# Altium integrated library ON Semi MOSFETs.IntLib: 1097 symbols (part 17 of 26)
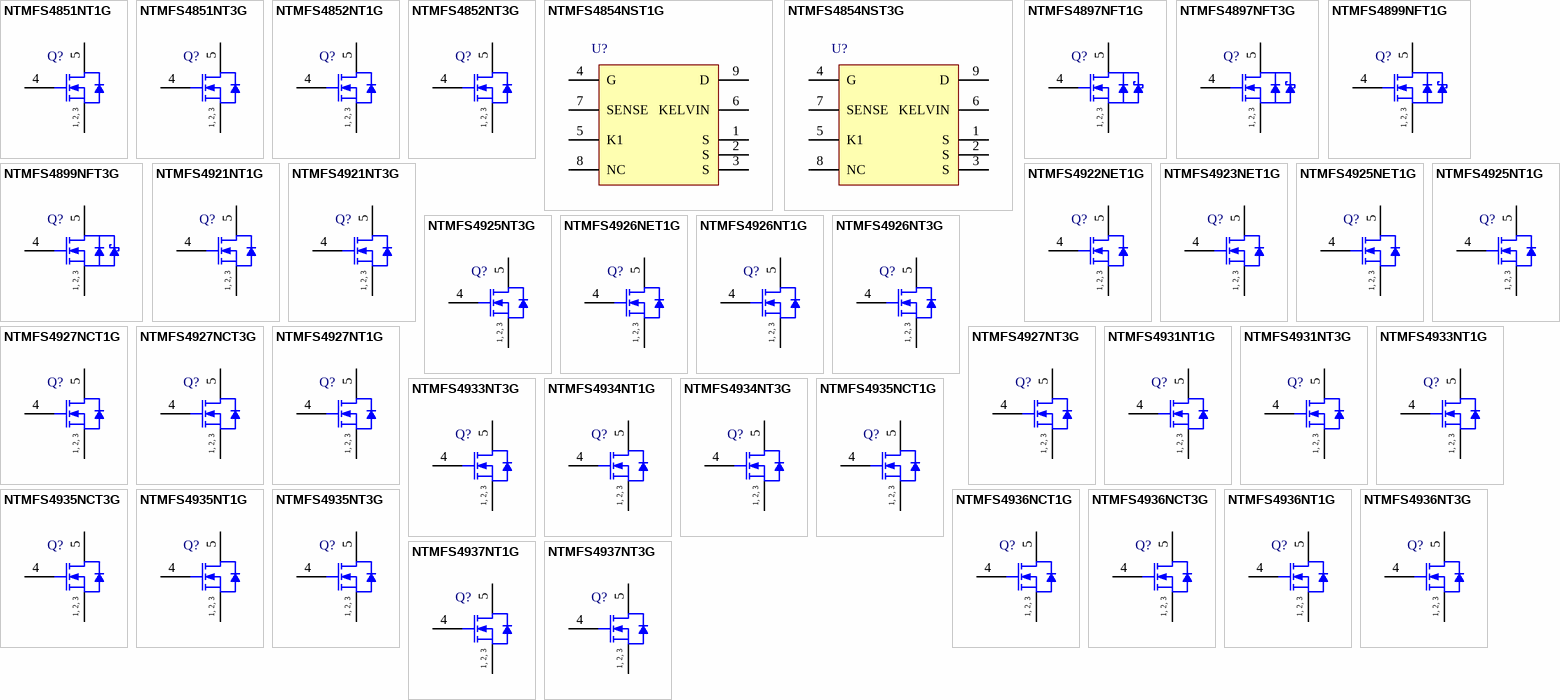
[diagram p47: symbols NTMFS4851NT1G to NTMFS4937NT3G]

## NTMFS4854NST3G
designator U?
SENSEFET(R) Power MOSFET, 25 V, 149 A, Single N-Channel, 8-Pin DFN, Pb-Free, Tape and Reel; Manufacturer: On Semiconductor; PartNumber: NTMFS4854NST3G; Channel Polarity: N Channel; Ciss Typ (pF): 4830; Coss Typ (pF): 1130; Crss Typ (pF): 550; Qrr Typ (nC): 33; V(BR)DSS Min (V): 25; VGS Max (V): 16; VGS(th) Max (V): 2.5; DatasheetVersion: Rev. 1; PackageVersion: Rev. C, 04/2012; PackageReference: DFN-8-506BQ; PackageDescription: 8-Pin Small Outline No-Lead, Body 5.8 x 4.8 mm, Pitch 1.27 mm; Configuration: Single; Package Type: SO-8FL / DFN-8; Packing: Tape and Reel; RoHS: Pb-Free; Mounting Technology: Surface Mount; ComponentLink1Description: Manufacturer URL; ComponentLink1URL: http://www.onsemi.com/; ComponentLink2Description: Datasheet; ComponentLink2URL: http://www.onsemi.com/pub_link/Collateral/NTMFS4854NS-D.PDF; ComponentLink3Description: Package Specification; ComponentLink3URL: http://www.onsemi.com/pub_link/Collateral/506BQ.PDF
footprint ONSC-DFN-8-506BQ_V (SON, 8-Leads, Body 6.15x5.15mm, Pitch 1.27mm, Thermal Pad 4.56x3.7mm)
pins: 1 S, 2 S, 3 S, 4 G, 5 K1, 6 KELVIN, 7 SENSE, 8 NC, 9 D

## NTMFS4897NFT1G
designator Q?
Power MOSFET, 30 V, 171 A, Single N-Channel, 5-Pin DFN, Pb-Free, Tape and Reel; Manufacturer: On Semiconductor; PartNumber: NTMFS4897NFT1G; Channel Polarity: N Channel; Ciss Typ (pF): 5660; Configuration: with Schottky Diode; Coss Typ (pF): 1150; Crss Typ (pF): 495; ID Max (A): 171; Qrr Typ (nC): 34; V(BR)DSS Min (V): 30; VGS Max (V): 20; VGS(th) Max (V): 2.5; DatasheetVersion: Rev. 2; PackageVersion: Rev. H, 03/2013; PackageReference: DFN-5-488AA; PackageDescription: 5-Pin Small Outline No-Lead, Body 4.9 x 5.9 mm, Pitch 1.27 mm; Package Type: SO-8FL / DFN-5; Packing: Tape and Reel; RoHS: Pb-Free; Mounting Technology: Surface Mount; Code_JEDEC: MO-240A; ComponentLink1Description: Manufacturer URL; ComponentLink1URL: http://www.onsemi.com/; ComponentLink2Description: Datasheet; ComponentLink2URL: http://www.onsemi.com/pub_link/Collateral/NTMFS4897NF-D.PDF; ComponentLink3Description: Package Specification; ComponentLink3URL: http://www.onsemi.com/pub_link/Collateral/488AA.PDF
footprint ONSC-DFN-5-488AA_V (DFN, 5-Leads, Body 5.9x4.9mm, Pitch 1.27mm)
pins: 1 S, 2 S, 3 S, 4 G, 5 D
text: 1, 2, 3

## NTMFS4897NFT3G
designator Q?
Power MOSFET, 30 V, 171 A, Single N-Channel, 5-Pin DFN, Pb-Free, Tape and Reel; Manufacturer: On Semiconductor; PartNumber: NTMFS4897NFT3G; Channel Polarity: N Channel; Ciss Typ (pF): 5660; Configuration: with Schottky Diode; Coss Typ (pF): 1150; Crss Typ (pF): 495; ID Max (A): 171; Qrr Typ (nC): 34; V(BR)DSS Min (V): 30; VGS Max (V): 20; VGS(th) Max (V): 2.5; DatasheetVersion: Rev. 2; PackageVersion: Rev. H, 03/2013; PackageReference: DFN-5-488AA; PackageDescription: 5-Pin Small Outline No-Lead, Body 4.9 x 5.9 mm, Pitch 1.27 mm; Package Type: SO-8FL / DFN-5; Packing: Tape and Reel; RoHS: Pb-Free; Mounting Technology: Surface Mount; Code_JEDEC: MO-240A; ComponentLink1Description: Manufacturer URL; ComponentLink1URL: http://www.onsemi.com/; ComponentLink2Description: Datasheet; ComponentLink2URL: http://www.onsemi.com/pub_link/Collateral/NTMFS4897NF-D.PDF; ComponentLink3Description: Package Specification; ComponentLink3URL: http://www.onsemi.com/pub_link/Collateral/488AA.PDF
footprint ONSC-DFN-5-488AA_V (DFN, 5-Leads, Body 5.9x4.9mm, Pitch 1.27mm)
pins: 1 S, 2 S, 3 S, 4 G, 5 D
text: 1, 2, 3

## NTMFS4899NFT1G
designator Q?
Power MOSFET, 30 V, 75 A, Single N-Channel, 5-Pin DFN, Pb-Free, Tape and Reel; Manufacturer: On Semiconductor; PartNumber: NTMFS4899NFT1G; Channel Polarity: N Channel; Ciss Typ (pF): 1600; Configuration: with Schottky Diode; Coss Typ (pF): 360; Crss Typ (pF): 165; ID Max (A): 75; Qrr Typ (nC): 5.7; V(BR)DSS Min (V): 30; VGS Max (V): 20; VGS(th) Max (V): 2.5; DatasheetVersion: Rev. 3; PackageVersion: Rev. H, 03/2013; PackageReference: DFN-5-488AA; PackageDescription: 5-Pin Small Outline No-Lead, Body 4.9 x 5.9 mm, Pitch 1.27 mm; Package Type: SO-8FL / DFN-5; Packing: Tape and Reel; RoHS: Pb-Free; Mounting Technology: Surface Mount; Code_JEDEC: MO-240A; ComponentLink1Description: Manufacturer URL; ComponentLink1URL: http://www.onsemi.com/; ComponentLink2Description: Datasheet; ComponentLink2URL: http://www.onsemi.com/pub_link/Collateral/NTMFS4899NF-D.PDF; ComponentLink3Description: Package Specification; ComponentLink3URL: http://www.onsemi.com/pub_link/Collateral/488AA.PDF
footprint ONSC-DFN-5-488AA_V (DFN, 5-Leads, Body 5.9x4.9mm, Pitch 1.27mm)
pins: 1 S, 2 S, 3 S, 4 G, 5 D
text: 1, 2, 3

## NTMFS4899NFT3G
designator Q?
Power MOSFET, 30 V, 75 A, Single N-Channel, 5-Pin DFN, Pb-Free, Tape and Reel; Manufacturer: On Semiconductor; PartNumber: NTMFS4899NFT3G; Channel Polarity: N Channel; Ciss Typ (pF): 1600; Configuration: with Schottky Diode; Coss Typ (pF): 360; Crss Typ (pF): 165; ID Max (A): 75; Qrr Typ (nC): 5.7; V(BR)DSS Min (V): 30; VGS Max (V): 20; VGS(th) Max (V): 2.5; DatasheetVersion: Rev. 3; PackageVersion: Rev. H, 03/2013; PackageReference: DFN-5-488AA; PackageDescription: 5-Pin Small Outline No-Lead, Body 4.9 x 5.9 mm, Pitch 1.27 mm; Package Type: SO-8FL / DFN-5; Packing: Tape and Reel; RoHS: Pb-Free; Mounting Technology: Surface Mount; Code_JEDEC: MO-240A; ComponentLink1Description: Manufacturer URL; ComponentLink1URL: http://www.onsemi.com/; ComponentLink2Description: Datasheet; ComponentLink2URL: http://www.onsemi.com/pub_link/Collateral/NTMFS4899NF-D.PDF; ComponentLink3Description: Package Specification; ComponentLink3URL: http://www.onsemi.com/pub_link/Collateral/488AA.PDF
footprint ONSC-DFN-5-488AA_V (DFN, 5-Leads, Body 5.9x4.9mm, Pitch 1.27mm)
pins: 1 S, 2 S, 3 S, 4 G, 5 D
text: 1, 2, 3

## NTMFS4921NT1G
designator Q?
Power MOSFET, 30 V, 58.5 A, Single N-Channel, 5-Pin DFN, Pb-Free, Tape and Reel; Manufacturer: On Semiconductor; PartNumber: NTMFS4921NT1G; Channel Polarity: N Channel; Ciss Typ (pF): 1400; Coss Typ (pF): 282; Crss Typ (pF): 136; ID Max (A): 58.5; Qrr Typ (nC): 2; V(BR)DSS Min (V): 30; VGS Max (V): 20; VGS(th) Max (V): 2.5; DatasheetVersion: Rev. 4; PackageVersion: Rev. H, 03/2013; PackageReference: DFN-5-488AA; PackageDescription: 5-Pin Small Outline No-Lead, Body 4.9 x 5.9 mm, Pitch 1.27 mm; Configuration: Single; Package Type: SO-8FL / DFN-5; Packing: Tape and Reel; RoHS: Pb-Free; Mounting Technology: Surface Mount; Code_JEDEC: MO-240A; ComponentLink1Description: Manufacturer URL; ComponentLink1URL: http://www.onsemi.com/; ComponentLink2Description: Datasheet; ComponentLink2URL: http://www.onsemi.com/pub_link/Collateral/NTMFS4921N.PDF; ComponentLink3Description: Package Specification; ComponentLink3URL: http://www.onsemi.com/pub_link/Collateral/488AA.PDF
footprint ONSC-DFN-5-488AA_V (DFN, 5-Leads, Body 5.9x4.9mm, Pitch 1.27mm)
pins: 1 S, 2 S, 3 S, 4 G, 5 D
text: 1, 2, 3

## NTMFS4921NT3G
designator Q?
Power MOSFET, 30 V, 58.5 A, Single N-Channel, 5-Pin DFN, Pb-Free, Tape and Reel; Manufacturer: On Semiconductor; PartNumber: NTMFS4921NT3G; Channel Polarity: N Channel; Ciss Typ (pF): 1400; Coss Typ (pF): 282; Crss Typ (pF): 136; ID Max (A): 58.5; Qrr Typ (nC): 2; V(BR)DSS Min (V): 30; VGS Max (V): 20; VGS(th) Max (V): 2.5; DatasheetVersion: Rev. 4; PackageVersion: Rev. H, 03/2013; PackageReference: DFN-5-488AA; PackageDescription: 5-Pin Small Outline No-Lead, Body 4.9 x 5.9 mm, Pitch 1.27 mm; Configuration: Single; Package Type: SO-8FL / DFN-5; Packing: Tape and Reel; RoHS: Pb-Free; Mounting Technology: Surface Mount; Code_JEDEC: MO-240A; ComponentLink1Description: Manufacturer URL; ComponentLink1URL: http://www.onsemi.com/; ComponentLink2Description: Datasheet; ComponentLink2URL: http://www.onsemi.com/pub_link/Collateral/NTMFS4921N.PDF; ComponentLink3Description: Package Specification; ComponentLink3URL: http://www.onsemi.com/pub_link/Collateral/488AA.PDF
footprint ONSC-DFN-5-488AA_V (DFN, 5-Leads, Body 5.9x4.9mm, Pitch 1.27mm)
pins: 1 S, 2 S, 3 S, 4 G, 5 D
text: 1, 2, 3

## NTMFS4922NET1G
designator Q?
Power MOSFET, 30 V, 147 A, Single N-Channel, 5-Pin DFN, Pb-Free, Tape and Reel; Manufacturer: On Semiconductor; PartNumber: NTMFS4922NET1G; Channel Polarity: N Channel; Ciss Typ (pF): 5505; Coss Typ (pF): 2355; Crss Typ (pF): 90; ID Max (A): 147; Qrr Typ (nC): 70; V(BR)DSS Min (V): 30; VGS Max (V): 20; VGS(th) Max (V): 2; DatasheetVersion: Rev. 1; PackageVersion: Rev. H, 03/2013; PackageReference: DFN-5-488AA; PackageDescription: 5-Pin Small Outline No-Lead, Body 4.9 x 5.9 mm, Pitch 1.27 mm; Configuration: Single; Package Type: SO-8FL / DFN-5; Packing: Tape and Reel; RoHS: Pb-Free; Mounting Technology: Surface Mount; Code_JEDEC: MO-240A; ComponentLink1Description: Manufacturer URL; ComponentLink1URL: http://www.onsemi.com/; ComponentLink2Description: Datasheet; ComponentLink2URL: http://www.onsemi.com/pub_link/Collateral/NTMFS4922NE-D.PDF; ComponentLink3Description: Package Specification; ComponentLink3URL: http://www.onsemi.com/pub_link/Collateral/488AA.PDF
footprint ONSC-DFN-5-488AA_V (DFN, 5-Leads, Body 5.9x4.9mm, Pitch 1.27mm)
pins: 1 S, 2 S, 3 S, 4 G, 5 D
text: 1, 2, 3

## NTMFS4923NET1G
designator Q?
Power MOSFET, 30 V, 91 A, Single N-Channel, 5-Pin DFN, Pb-Free, Tape and Reel; Manufacturer: On Semiconductor; PartNumber: NTMFS4923NET1G; Channel Polarity: N Channel; Ciss Typ (pF): 3579; Coss Typ (pF): 1264; Crss Typ (pF): 39; Qrr Typ (nC): 45; V(BR)DSS Min (V): 30; VGS Max (V): 20; VGS(th) Max (V): 2; DatasheetVersion: Rev. 1; PackageVersion: Rev. H, 03/2013; PackageReference: DFN-5-488AA; PackageDescription: 5-Pin Small Outline No-Lead, Body 4.9 x 5.9 mm, Pitch 1.27 mm; Configuration: Single; Package Type: SO-8FL / DFN-5; Packing: Tape and Reel; RoHS: Pb-Free; Mounting Technology: Surface Mount; Code_JEDEC: MO-240A; ComponentLink1Description: Manufacturer URL; ComponentLink1URL: http://www.onsemi.com/; ComponentLink2Description: Datasheet; ComponentLink2URL: http://www.onsemi.com/pub_link/Collateral/NTMFS4923NE-D.PDF; ComponentLink3Description: Package Specification; ComponentLink3URL: http://www.onsemi.com/pub_link/Collateral/488AA.PDF
footprint ONSC-DFN-5-488AA_V (DFN, 5-Leads, Body 5.9x4.9mm, Pitch 1.27mm)
pins: 1 S, 2 S, 3 S, 4 G, 5 D
text: 1, 2, 3

## NTMFS4925NET1G
designator Q?
Power MOSFET, 30 V, 48 A, Single N-Channel, 5-Pin DFN, Pb-Free, Tape and Reel; Manufacturer: On Semiconductor; PartNumber: NTMFS4925NET1G; Channel Polarity: N Channel; Ciss Typ (pF): 1264; Coss Typ (pF): 483; Crss Typ (pF): 143; ID Max (A): 48; Qrr Typ (nC): 13.6; V(BR)DSS Min (V): 30; VGS Max (V): 20; VGS(th) Max (V): 2.2; DatasheetVersion: Rev. 0; PackageVersion: Rev. H, 03/2013; PackageReference: DFN-5-488AA; PackageDescription: 5-Pin Small Outline No-Lead, Body 4.9 x 5.9 mm, Pitch 1.27 mm; Configuration: Single; Package Type: SO-8FL / DFN-5; Packing: Tape and Reel; RoHS: Pb-Free; Mounting Technology: Surface Mount; Code_JEDEC: MO-240A; ComponentLink1Description: Manufacturer URL; ComponentLink1URL: http://www.onsemi.com/; ComponentLink2Description: Datasheet; ComponentLink2URL: http://www.onsemi.com/pub_link/Collateral/NTMFS4925-D.PDF; ComponentLink3Description: Package Specification; ComponentLink3URL: http://www.onsemi.com/pub_link/Collateral/488AA.PDF
footprint ONSC-DFN-5-488AA_V (DFN, 5-Leads, Body 5.9x4.9mm, Pitch 1.27mm)
pins: 1 S, 2 S, 3 S, 4 G, 5 D
text: 1, 2, 3

## NTMFS4925NT1G
designator Q?
Power MOSFET, 30 V, 48 A, Single N-Channel, 5-Pin DFN, Pb-Free, Tape and Reel; Manufacturer: On Semiconductor; PartNumber: NTMFS4925NT1G; Channel Polarity: N Channel; Ciss Typ (pF): 1264; Coss Typ (pF): 483; Crss Typ (pF): 143; ID Max (A): 48; Qrr Typ (nC): 13.6; V(BR)DSS Min (V): 30; VGS Max (V): 20; VGS(th) Max (V): 2.2; DatasheetVersion: Rev. 6; PackageVersion: Rev. H, 03/2013; PackageReference: DFN-5-488AA; PackageDescription: 5-Pin Small Outline No-Lead, Body 4.9 x 5.9 mm, Pitch 1.27 mm; Configuration: Single; Package Type: SO-8FL / DFN-5; Packing: Tape and Reel; RoHS: Pb-Free; Mounting Technology: Surface Mount; Code_JEDEC: MO-240A; ComponentLink1Description: Manufacturer URL; ComponentLink1URL: http://www.onsemi.com/; ComponentLink2Description: Datasheet; ComponentLink2URL: http://www.onsemi.com/pub_link/Collateral/NTMFS4925N-D.PDF; ComponentLink3Description: Package Specification; ComponentLink3URL: http://www.onsemi.com/pub_link/Collateral/488AA.PDF
footprint ONSC-DFN-5-488AA_V (DFN, 5-Leads, Body 5.9x4.9mm, Pitch 1.27mm)
pins: 1 S, 2 S, 3 S, 4 G, 5 D
text: 1, 2, 3

## NTMFS4925NT3G
designator Q?
Power MOSFET, 30 V, 48 A, Single N-Channel, 5-Pin DFN, Pb-Free, Tape and Reel; Manufacturer: On Semiconductor; PartNumber: NTMFS4925NT3G; Channel Polarity: N Channel; Ciss Typ (pF): 1264; Coss Typ (pF): 483; Crss Typ (pF): 143; ID Max (A): 48; Qrr Typ (nC): 13.6; V(BR)DSS Min (V): 30; VGS Max (V): 20; VGS(th) Max (V): 2.2; DatasheetVersion: Rev. 6; PackageVersion: Rev. H, 03/2013; PackageReference: DFN-5-488AA; PackageDescription: 5-Pin Small Outline No-Lead, Body 4.9 x 5.9 mm, Pitch 1.27 mm; Configuration: Single; Package Type: SO-8FL / DFN-5; Packing: Tape and Reel; RoHS: Pb-Free; Mounting Technology: Surface Mount; Code_JEDEC: MO-240A; ComponentLink1Description: Manufacturer URL; ComponentLink1URL: http://www.onsemi.com/; ComponentLink2Description: Datasheet; ComponentLink2URL: http://www.onsemi.com/pub_link/Collateral/NTMFS4925N-D.PDF; ComponentLink3Description: Package Specification; ComponentLink3URL: http://www.onsemi.com/pub_link/Collateral/488AA.PDF
footprint ONSC-DFN-5-488AA_V (DFN, 5-Leads, Body 5.9x4.9mm, Pitch 1.27mm)
pins: 1 S, 2 S, 3 S, 4 G, 5 D
text: 1, 2, 3

## NTMFS4926NET1G
designator Q?
Power MOSFET, 30 V, 44 A, Single N-Channel, 5-Pin DFN, Pb-Free, Tape and Reel; Manufacturer: On Semiconductor; PartNumber: NTMFS4926NET1G; Channel Polarity: N Channel; Ciss Typ (pF): 1004; Coss Typ (pF): 390; Crss Typ (pF): 119; ID Max (A): 44; Qrr Typ (nC): 8; V(BR)DSS Min (V): 30; VGS Max (V): 20; VGS(th) Max (V): 2.2; DatasheetVersion: Rev. 1; PackageVersion: Rev. H, 03/2013; PackageReference: DFN-5-488AA; PackageDescription: 5-Pin Small Outline No-Lead, Body 4.9 x 5.9 mm, Pitch 1.27 mm; Configuration: Single; Package Type: SO-8FL / DFN-5; Packing: Tape and Reel; RoHS: Pb-Free; Mounting Technology: Surface Mount; Code_JEDEC: MO-240A; ComponentLink1Description: Manufacturer URL; ComponentLink1URL: http://www.onsemi.com/; ComponentLink2Description: Datasheet; ComponentLink2URL: http://www.onsemi.com/pub_link/Collateral/NTMFS4926NE-D.PDF; ComponentLink3Description: Package Specification; ComponentLink3URL: http://www.onsemi.com/pub_link/Collateral/488AA.PDF
footprint ONSC-DFN-5-488AA_V (DFN, 5-Leads, Body 5.9x4.9mm, Pitch 1.27mm)
pins: 1 S, 2 S, 3 S, 4 G, 5 D
text: 1, 2, 3

## NTMFS4926NT1G
designator Q?
Power MOSFET, 30 V, 44 A, Single N-Channel, 5-Pin DFN, Pb-Free, Tape and Reel; Manufacturer: On Semiconductor; PartNumber: NTMFS4926NT1G; Channel Polarity: N Channel; Ciss Typ (pF): 1004; Coss Typ (pF): 390; Crss Typ (pF): 119; ID Max (A): 44; Qrr Typ (nC): 8; V(BR)DSS Min (V): 30; VGS Max (V): 20; VGS(th) Max (V): 2.2; DatasheetVersion: Rev. 5; PackageVersion: Rev. H, 03/2013; PackageReference: DFN-5-488AA; PackageDescription: 5-Pin Small Outline No-Lead, Body 4.9 x 5.9 mm, Pitch 1.27 mm; Configuration: Single; Package Type: SO-8FL / DFN-5; Packing: Tape and Reel; RoHS: Pb-Free; Mounting Technology: Surface Mount; Code_JEDEC: MO-240A; ComponentLink1Description: Manufacturer URL; ComponentLink1URL: http://www.onsemi.com/; ComponentLink2Description: Datasheet; ComponentLink2URL: http://www.onsemi.com/pub_link/Collateral/NTMFS4926N-D.PDF; ComponentLink3Description: Package Specification; ComponentLink3URL: http://www.onsemi.com/pub_link/Collateral/488AA.PDF
footprint ONSC-DFN-5-488AA_V (DFN, 5-Leads, Body 5.9x4.9mm, Pitch 1.27mm)
pins: 1 S, 2 S, 3 S, 4 G, 5 D
text: 1, 2, 3

## NTMFS4926NT3G
designator Q?
Power MOSFET, 30 V, 44 A, Single N-Channel, 5-Pin DFN, Pb-Free, Tape and Reel; Manufacturer: On Semiconductor; PartNumber: NTMFS4926NT3G; Channel Polarity: N Channel; Ciss Typ (pF): 1004; Coss Typ (pF): 390; Crss Typ (pF): 119; ID Max (A): 44; Qrr Typ (nC): 8; V(BR)DSS Min (V): 30; VGS Max (V): 20; VGS(th) Max (V): 2.2; DatasheetVersion: Rev. 5; PackageVersion: Rev. H, 03/2013; PackageReference: DFN-5-488AA; PackageDescription: 5-Pin Small Outline No-Lead, Body 4.9 x 5.9 mm, Pitch 1.27 mm; Configuration: Single; Package Type: SO-8FL / DFN-5; Packing: Tape and Reel; RoHS: Pb-Free; Mounting Technology: Surface Mount; Code_JEDEC: MO-240A; ComponentLink1Description: Manufacturer URL; ComponentLink1URL: http://www.onsemi.com/; ComponentLink2Description: Datasheet; ComponentLink2URL: http://www.onsemi.com/pub_link/Collateral/NTMFS4926N-D.PDF; ComponentLink3Description: Package Specification; ComponentLink3URL: http://www.onsemi.com/pub_link/Collateral/488AA.PDF
footprint ONSC-DFN-5-488AA_V (DFN, 5-Leads, Body 5.9x4.9mm, Pitch 1.27mm)
pins: 1 S, 2 S, 3 S, 4 G, 5 D
text: 1, 2, 3

## NTMFS4927NCT1G
designator Q?
Power MOSFET, 30 V, 38 A, Single N-Channel, 5-Pin DFN, Pb-Free, Tape and Reel; Manufacturer: On Semiconductor; PartNumber: NTMFS4927NCT1G; Channel Polarity: N Channel; Ciss Typ (pF): 913; Coss Typ (pF): 366; Crss Typ (pF): 108; ID Max (A): 38; Qrr Typ (nC): 8.4; V(BR)DSS Min (V): 30; VGS Max (V): 20; VGS(th) Max (V): 2.2; DatasheetVersion: Rev. 8; PackageVersion: Rev. H, 03/2013; PackageReference: DFN-5-488AA; PackageDescription: 5-Pin Small Outline No-Lead, Body 4.9 x 5.9 mm, Pitch 1.27 mm; Configuration: Single; Package Type: SO-8FL / DFN-5; Packing: Tape and Reel; RoHS: Pb-Free; Mounting Technology: Surface Mount; Code_JEDEC: MO-240A; ComponentLink1Description: Manufacturer URL; ComponentLink1URL: http://www.onsemi.com/; ComponentLink2Description: Datasheet; ComponentLink2URL: http://www.onsemi.com/pub_link/Collateral/NTMFS4927N-D.PDF; ComponentLink3Description: Package Specification; ComponentLink3URL: http://www.onsemi.com/pub_link/Collateral/488AA.PDF
footprint ONSC-DFN-5-488AA_V (DFN, 5-Leads, Body 5.9x4.9mm, Pitch 1.27mm)
pins: 1 S, 2 S, 3 S, 4 G, 5 D
text: 1, 2, 3

## NTMFS4927NCT3G
designator Q?
Power MOSFET, 30 V, 38 A, Single N-Channel, 5-Pin DFN, Pb-Free, Tape and Reel; Manufacturer: On Semiconductor; PartNumber: NTMFS4927NCT3G; Channel Polarity: N Channel; Ciss Typ (pF): 913; Coss Typ (pF): 366; Crss Typ (pF): 108; ID Max (A): 38; Qrr Typ (nC): 8.4; V(BR)DSS Min (V): 30; VGS Max (V): 20; VGS(th) Max (V): 2.2; DatasheetVersion: Rev. 8; PackageVersion: Rev. H, 03/2013; PackageReference: DFN-5-488AA; PackageDescription: 5-Pin Small Outline No-Lead, Body 4.9 x 5.9 mm, Pitch 1.27 mm; Configuration: Single; Package Type: SO-8FL / DFN-5; Packing: Tape and Reel; RoHS: Pb-Free; Mounting Technology: Surface Mount; Code_JEDEC: MO-240A; ComponentLink1Description: Manufacturer URL; ComponentLink1URL: http://www.onsemi.com/; ComponentLink2Description: Datasheet; ComponentLink2URL: http://www.onsemi.com/pub_link/Collateral/NTMFS4927N-D.PDF; ComponentLink3Description: Package Specification; ComponentLink3URL: http://www.onsemi.com/pub_link/Collateral/488AA.PDF
footprint ONSC-DFN-5-488AA_V (DFN, 5-Leads, Body 5.9x4.9mm, Pitch 1.27mm)
pins: 1 S, 2 S, 3 S, 4 G, 5 D
text: 1, 2, 3

## NTMFS4927NT1G
designator Q?
Power MOSFET, 30 V, 38 A, Single N-Channel, 5-Pin DFN, Pb-Free, Tape and Reel; Manufacturer: On Semiconductor; PartNumber: NTMFS4927NT1G; Channel Polarity: N Channel; Ciss Typ (pF): 913; Coss Typ (pF): 366; Crss Typ (pF): 108; ID Max (A): 38; Qrr Typ (nC): 8.4; V(BR)DSS Min (V): 30; VGS Max (V): 20; VGS(th) Max (V): 2.2; DatasheetVersion: Rev. 8; PackageVersion: Rev. H, 03/2013; PackageReference: DFN-5-488AA; PackageDescription: 5-Pin Small Outline No-Lead, Body 4.9 x 5.9 mm, Pitch 1.27 mm; Configuration: Single; Package Type: SO-8FL / DFN-5; Packing: Tape and Reel; RoHS: Pb-Free; Mounting Technology: Surface Mount; Code_JEDEC: MO-240A; ComponentLink1Description: Manufacturer URL; ComponentLink1URL: http://www.onsemi.com/; ComponentLink2Description: Datasheet; ComponentLink2URL: http://www.onsemi.com/pub_link/Collateral/NTMFS4927N-D.PDF; ComponentLink3Description: Package Specification; ComponentLink3URL: http://www.onsemi.com/pub_link/Collateral/488AA.PDF
footprint ONSC-DFN-5-488AA_V (DFN, 5-Leads, Body 5.9x4.9mm, Pitch 1.27mm)
pins: 1 S, 2 S, 3 S, 4 G, 5 D
text: 1, 2, 3

## NTMFS4927NT3G
designator Q?
Power MOSFET, 30 V, 38 A, Single N-Channel, 5-Pin DFN, Pb-Free, Tape and Reel; Manufacturer: On Semiconductor; PartNumber: NTMFS4927NT3G; Channel Polarity: N Channel; Ciss Typ (pF): 913; Coss Typ (pF): 366; Crss Typ (pF): 108; ID Max (A): 38; Qrr Typ (nC): 8.4; V(BR)DSS Min (V): 30; VGS Max (V): 20; VGS(th) Max (V): 2.2; DatasheetVersion: Rev. 8; PackageVersion: Rev. H, 03/2013; PackageReference: DFN-5-488AA; PackageDescription: 5-Pin Small Outline No-Lead, Body 4.9 x 5.9 mm, Pitch 1.27 mm; Configuration: Single; Package Type: SO-8FL / DFN-5; Packing: Tape and Reel; RoHS: Pb-Free; Mounting Technology: Surface Mount; Code_JEDEC: MO-240A; ComponentLink1Description: Manufacturer URL; ComponentLink1URL: http://www.onsemi.com/; ComponentLink2Description: Datasheet; ComponentLink2URL: http://www.onsemi.com/pub_link/Collateral/NTMFS4927N-D.PDF; ComponentLink3Description: Package Specification; ComponentLink3URL: http://www.onsemi.com/pub_link/Collateral/488AA.PDF
footprint ONSC-DFN-5-488AA_V (DFN, 5-Leads, Body 5.9x4.9mm, Pitch 1.27mm)
pins: 1 S, 2 S, 3 S, 4 G, 5 D
text: 1, 2, 3

## NTMFS4931NT1G
designator Q?
Power MOSFET, 30 V, 246 A, Single N-Channel, 5-Pin DFN, Pb-Free, Tape and Reel; Manufacturer: On Semiconductor; PartNumber: NTMFS4931NT1G; Channel Polarity: N Channel; Ciss Typ (pF): 9821; Coss Typ (pF): 2720; Crss Typ (pF): 234; ID Max (A): 246; Qrr Typ (nC): 100; V(BR)DSS Min (V): 30; VGS Max (V): 20; VGS(th) Max (V): 2.2; DatasheetVersion: Rev. 0; PackageVersion: Rev. H, 03/2013; PackageReference: DFN-5-488AA; PackageDescription: 5-Pin Small Outline No-Lead, Body 4.9 x 5.9 mm, Pitch 1.27 mm; Configuration: Single; Package Type: SO-8FL / DFN-5; Packing: Tape and Reel; RoHS: Pb-Free; Mounting Technology: Surface Mount; Code_JEDEC: MO-240A; ComponentLink1Description: Manufacturer URL; ComponentLink1URL: http://www.onsemi.com/; ComponentLink2Description: Datasheet; ComponentLink2URL: http://www.onsemi.com/pub_link/Collateral/NTMFS4931N-D.PDF; ComponentLink3Description: Package Specification; ComponentLink3URL: http://www.onsemi.com/pub_link/Collateral/488AA.PDF
footprint ONSC-DFN-5-488AA_V (DFN, 5-Leads, Body 5.9x4.9mm, Pitch 1.27mm)
pins: 1 S, 2 S, 3 S, 4 G, 5 D
text: 1, 2, 3

## NTMFS4931NT3G
designator Q?
Power MOSFET, 30 V, 246 A, Single N-Channel, 5-Pin DFN, Pb-Free, Tape and Reel; Manufacturer: On Semiconductor; PartNumber: NTMFS4931NT3G; Channel Polarity: N Channel; Ciss Typ (pF): 9821; Coss Typ (pF): 2720; Crss Typ (pF): 234; ID Max (A): 246; Qrr Typ (nC): 100; V(BR)DSS Min (V): 30; VGS Max (V): 20; VGS(th) Max (V): 2.2; DatasheetVersion: Rev. 0; PackageVersion: Rev. H, 03/2013; PackageReference: DFN-5-488AA; PackageDescription: 5-Pin Small Outline No-Lead, Body 4.9 x 5.9 mm, Pitch 1.27 mm; Configuration: Single; Package Type: SO-8FL / DFN-5; Packing: Tape and Reel; RoHS: Pb-Free; Mounting Technology: Surface Mount; Code_JEDEC: MO-240A; ComponentLink1Description: Manufacturer URL; ComponentLink1URL: http://www.onsemi.com/; ComponentLink2Description: Datasheet; ComponentLink2URL: http://www.onsemi.com/pub_link/Collateral/NTMFS4931N-D.PDF; ComponentLink3Description: Package Specification; ComponentLink3URL: http://www.onsemi.com/pub_link/Collateral/488AA.PDF
footprint ONSC-DFN-5-488AA_V (DFN, 5-Leads, Body 5.9x4.9mm, Pitch 1.27mm)
pins: 1 S, 2 S, 3 S, 4 G, 5 D
text: 1, 2, 3

## NTMFS4933NT1G
designator Q?
Power MOSFET, 30 V, 210 A, Single N-Channel, 5-Pin DFN, Pb-Free, Tape and Reel; Manufacturer: On Semiconductor; PartNumber: NTMFS4933NT1G; Channel Polarity: N Channel; Ciss Typ (pF): 10930; Coss Typ (pF): 3230; Crss Typ (pF): 92; ID Max (A): 210; Qrr Typ (nC): 117; V(BR)DSS Min (V): 30; VGS Max (V): 20; VGS(th) Max (V): 2.2; DatasheetVersion: Rev. 8; PackageVersion: Rev. H, 03/2013; PackageReference: DFN-5-488AA; PackageDescription: 5-Pin Small Outline No-Lead, Body 4.9 x 5.9 mm, Pitch 1.27 mm; Configuration: Single; Package Type: SO-8FL / DFN-5; Packing: Tape and Reel; RoHS: Pb-Free; Mounting Technology: Surface Mount; Code_JEDEC: MO-240A; ComponentLink1Description: Manufacturer URL; ComponentLink1URL: http://www.onsemi.com/; ComponentLink2Description: Datasheet; ComponentLink2URL: http://www.onsemi.com/pub_link/Collateral/NTMFS4933N-D.PDF; ComponentLink3Description: Package Specification; ComponentLink3URL: http://www.onsemi.com/pub_link/Collateral/488AA.PDF
footprint ONSC-DFN-5-488AA_V (DFN, 5-Leads, Body 5.9x4.9mm, Pitch 1.27mm)
pins: 1 S, 2 S, 3 S, 4 G, 5 D
text: 1, 2, 3

## NTMFS4933NT3G
designator Q?
Power MOSFET, 30 V, 210 A, Single N-Channel, 5-Pin DFN, Pb-Free, Tape and Reel; Manufacturer: On Semiconductor; PartNumber: NTMFS4933NT3G; Channel Polarity: N Channel; Ciss Typ (pF): 10930; Coss Typ (pF): 3230; Crss Typ (pF): 92; ID Max (A): 210; Qrr Typ (nC): 117; V(BR)DSS Min (V): 30; VGS Max (V): 20; VGS(th) Max (V): 2.2; DatasheetVersion: Rev. 8; PackageVersion: Rev. H, 03/2013; PackageReference: DFN-5-488AA; PackageDescription: 5-Pin Small Outline No-Lead, Body 4.9 x 5.9 mm, Pitch 1.27 mm; Configuration: Single; Package Type: SO-8FL / DFN-5; Packing: Tape and Reel; RoHS: Pb-Free; Mounting Technology: Surface Mount; Code_JEDEC: MO-240A; ComponentLink1Description: Manufacturer URL; ComponentLink1URL: http://www.onsemi.com/; ComponentLink2Description: Datasheet; ComponentLink2URL: http://www.onsemi.com/pub_link/Collateral/NTMFS4933N-D.PDF; ComponentLink3Description: Package Specification; ComponentLink3URL: http://www.onsemi.com/pub_link/Collateral/488AA.PDF
footprint ONSC-DFN-5-488AA_V (DFN, 5-Leads, Body 5.9x4.9mm, Pitch 1.27mm)
pins: 1 S, 2 S, 3 S, 4 G, 5 D
text: 1, 2, 3

## NTMFS4934NT1G
designator Q?
Power MOSFET, 30 V, 147 A, Single N-Channel, 5-Pin DFN, Pb-Free, Tape and Reel; Manufacturer: On Semiconductor; PartNumber: NTMFS4934NT1G; Channel Polarity: N Channel; Ciss Typ (pF): 5505; Coss Typ (pF): 2355; Crss Typ (pF): 90; ID Max (A): 147; Qrr Typ (nC): 70; V(BR)DSS Min (V): 30; VGS Max (V): 20; VGS(th) Max (V): 2.2; DatasheetVersion: Rev. 4; PackageVersion: Rev. H, 03/2013; PackageReference: DFN-5-488AA; PackageDescription: 5-Pin Small Outline No-Lead, Body 4.9 x 5.9 mm, Pitch 1.27 mm; Configuration: Single; Package Type: SO-8FL / DFN-5; Packing: Tape and Reel; RoHS: Pb-Free; Mounting Technology: Surface Mount; Code_JEDEC: MO-240A; ComponentLink1Description: Manufacturer URL; ComponentLink1URL: http://www.onsemi.com/; ComponentLink2Description: Datasheet; ComponentLink2URL: http://www.onsemi.com/pub_link/Collateral/NTMFS4934N-D.PDF; ComponentLink3Description: Package Specification; ComponentLink3URL: http://www.onsemi.com/pub_link/Collateral/488AA.PDF
footprint ONSC-DFN-5-488AA_V (DFN, 5-Leads, Body 5.9x4.9mm, Pitch 1.27mm)
pins: 1 S, 2 S, 3 S, 4 G, 5 D
text: 1, 2, 3

## NTMFS4934NT3G
designator Q?
Power MOSFET, 30 V, 147 A, Single N-Channel, 5-Pin DFN, Pb-Free, Tape and Reel; Manufacturer: On Semiconductor; PartNumber: NTMFS4934NT3G; Channel Polarity: N Channel; Ciss Typ (pF): 5505; Coss Typ (pF): 2355; Crss Typ (pF): 90; ID Max (A): 147; Qrr Typ (nC): 70; V(BR)DSS Min (V): 30; VGS Max (V): 20; VGS(th) Max (V): 2.2; DatasheetVersion: Rev. 4; PackageVersion: Rev. H, 03/2013; PackageReference: DFN-5-488AA; PackageDescription: 5-Pin Small Outline No-Lead, Body 4.9 x 5.9 mm, Pitch 1.27 mm; Configuration: Single; Package Type: SO-8FL / DFN-5; Packing: Tape and Reel; RoHS: Pb-Free; Mounting Technology: Surface Mount; Code_JEDEC: MO-240A; ComponentLink1Description: Manufacturer URL; ComponentLink1URL: http://www.onsemi.com/; ComponentLink2Description: Datasheet; ComponentLink2URL: http://www.onsemi.com/pub_link/Collateral/NTMFS4934N-D.PDF; ComponentLink3Description: Package Specification; ComponentLink3URL: http://www.onsemi.com/pub_link/Collateral/488AA.PDF
footprint ONSC-DFN-5-488AA_V (DFN, 5-Leads, Body 5.9x4.9mm, Pitch 1.27mm)
pins: 1 S, 2 S, 3 S, 4 G, 5 D
text: 1, 2, 3

## NTMFS4935NCT1G
designator Q?
Power MOSFET, 30 V, 93 A, Single N-Channel, 5-Pin DFN, Pb-Free, Tape and Reel; Manufacturer: On Semiconductor; PartNumber: NTMFS4935NCT1G; Channel Polarity: N Channel; Ciss Typ (pF): 3579; Coss Typ (pF): 1264; Crss Typ (pF): 39; ID Max (A): 93; Qrr Typ (nC): 45; V(BR)DSS Min (V): 30; VGS Max (V): 20; VGS(th) Max (V): 2.2; DatasheetVersion: Rev. 10; PackageVersion: Rev. H, 03/2013; PackageReference: DFN-5-488AA; PackageDescription: 5-Pin Small Outline No-Lead, Body 4.9 x 5.9 mm, Pitch 1.27 mm; Configuration: Single; Package Type: SO-8FL / DFN-5; Packing: Tape and Reel; RoHS: Pb-Free; Mounting Technology: Surface Mount; Code_JEDEC: MO-240A; ComponentLink1Description: Manufacturer URL; ComponentLink1URL: http://www.onsemi.com/; ComponentLink2Description: Datasheet; ComponentLink2URL: http://www.onsemi.com/pub_link/Collateral/NTMFS4935N-D.PDF; ComponentLink3Description: Package Specification; ComponentLink3URL: http://www.onsemi.com/pub_link/Collateral/488AA.PDF
footprint ONSC-DFN-5-488AA_V (DFN, 5-Leads, Body 5.9x4.9mm, Pitch 1.27mm)
pins: 1 S, 2 S, 3 S, 4 G, 5 D
text: 1, 2, 3

## NTMFS4935NCT3G
designator Q?
Power MOSFET, 30 V, 93 A, Single N-Channel, 5-Pin DFN, Pb-Free, Tape and Reel; Manufacturer: On Semiconductor; PartNumber: NTMFS4935NCT3G; Channel Polarity: N Channel; Ciss Typ (pF): 3579; Coss Typ (pF): 1264; Crss Typ (pF): 39; ID Max (A): 93; Qrr Typ (nC): 45; V(BR)DSS Min (V): 30; VGS Max (V): 20; VGS(th) Max (V): 2.2; DatasheetVersion: Rev. 10; PackageVersion: Rev. H, 03/2013; PackageReference: DFN-5-488AA; PackageDescription: 5-Pin Small Outline No-Lead, Body 4.9 x 5.9 mm, Pitch 1.27 mm; Configuration: Single; Package Type: SO-8FL / DFN-5; Packing: Tape and Reel; RoHS: Pb-Free; Mounting Technology: Surface Mount; Code_JEDEC: MO-240A; ComponentLink1Description: Manufacturer URL; ComponentLink1URL: http://www.onsemi.com/; ComponentLink2Description: Datasheet; ComponentLink2URL: http://www.onsemi.com/pub_link/Collateral/NTMFS4935N-D.PDF; ComponentLink3Description: Package Specification; ComponentLink3URL: http://www.onsemi.com/pub_link/Collateral/488AA.PDF
footprint ONSC-DFN-5-488AA_V (DFN, 5-Leads, Body 5.9x4.9mm, Pitch 1.27mm)
pins: 1 S, 2 S, 3 S, 4 G, 5 D
text: 1, 2, 3

## NTMFS4935NT1G
designator Q?
Power MOSFET, 30 V, 93 A, Single N-Channel, 5-Pin DFN, Pb-Free, Tape and Reel; Manufacturer: On Semiconductor; PartNumber: NTMFS4935NT1G; Channel Polarity: N Channel; Ciss Typ (pF): 3579; Coss Typ (pF): 1264; Crss Typ (pF): 39; ID Max (A): 93; Qrr Typ (nC): 45; V(BR)DSS Min (V): 30; VGS Max (V): 20; VGS(th) Max (V): 2.2; DatasheetVersion: Rev. 10; PackageVersion: Rev. H, 03/2013; PackageReference: DFN-5-488AA; PackageDescription: 5-Pin Small Outline No-Lead, Body 4.9 x 5.9 mm, Pitch 1.27 mm; Configuration: Single; Package Type: SO-8FL / DFN-5; Packing: Tape and Reel; RoHS: Pb-Free; Mounting Technology: Surface Mount; Code_JEDEC: MO-240A; ComponentLink1Description: Manufacturer URL; ComponentLink1URL: http://www.onsemi.com/; ComponentLink2Description: Datasheet; ComponentLink2URL: http://www.onsemi.com/pub_link/Collateral/NTMFS4935N-D.PDF; ComponentLink3Description: Package Specification; ComponentLink3URL: http://www.onsemi.com/pub_link/Collateral/488AA.PDF
footprint ONSC-DFN-5-488AA_V (DFN, 5-Leads, Body 5.9x4.9mm, Pitch 1.27mm)
pins: 1 S, 2 S, 3 S, 4 G, 5 D
text: 1, 2, 3

## NTMFS4935NT3G
designator Q?
Power MOSFET, 30 V, 93 A, Single N-Channel, 5-Pin DFN, Pb-Free, Tape and Reel; Manufacturer: On Semiconductor; PartNumber: NTMFS4935NT3G; Channel Polarity: N Channel; Ciss Typ (pF): 3579; Coss Typ (pF): 1264; Crss Typ (pF): 39; ID Max (A): 93; Qrr Typ (nC): 45; V(BR)DSS Min (V): 30; VGS Max (V): 20; VGS(th) Max (V): 2.2; DatasheetVersion: Rev. 10; PackageVersion: Rev. H, 03/2013; PackageReference: DFN-5-488AA; PackageDescription: 5-Pin Small Outline No-Lead, Body 4.9 x 5.9 mm, Pitch 1.27 mm; Configuration: Single; Package Type: SO-8FL / DFN-5; Packing: Tape and Reel; RoHS: Pb-Free; Mounting Technology: Surface Mount; Code_JEDEC: MO-240A; ComponentLink1Description: Manufacturer URL; ComponentLink1URL: http://www.onsemi.com/; ComponentLink2Description: Datasheet; ComponentLink2URL: http://www.onsemi.com/pub_link/Collateral/NTMFS4935N-D.PDF; ComponentLink3Description: Package Specification; ComponentLink3URL: http://www.onsemi.com/pub_link/Collateral/488AA.PDF
footprint ONSC-DFN-5-488AA_V (DFN, 5-Leads, Body 5.9x4.9mm, Pitch 1.27mm)
pins: 1 S, 2 S, 3 S, 4 G, 5 D
text: 1, 2, 3

## NTMFS4936NCT1G
designator Q?
Power MOSFET, 30 V, 79 A, Single N-Channel, 5-Pin DFN, Pb-Free, Tape and Reel; Manufacturer: On Semiconductor; PartNumber: NTMFS4936NCT1G; Channel Polarity: N Channel; Ciss Typ (pF): 3044; Coss Typ (pF): 1014; Crss Typ (pF): 39; ID Max (A): 79; Qrr Typ (nC): 36; V(BR)DSS Min (V): 30; VGS Max (V): 20; VGS(th) Max (V): 2.2; DatasheetVersion: Rev. 9; PackageVersion: Rev. H, 03/2013; PackageReference: DFN-5-488AA; PackageDescription: 5-Pin Small Outline No-Lead, Body 4.9 x 5.9 mm, Pitch 1.27 mm; Configuration: Single; Package Type: SO-8FL / DFN-5; Packing: Tape and Reel; RoHS: Pb-Free; Mounting Technology: Surface Mount; Code_JEDEC: MO-240A; ComponentLink1Description: Manufacturer URL; ComponentLink1URL: http://www.onsemi.com/; ComponentLink2Description: Datasheet; ComponentLink2URL: http://www.onsemi.com/pub_link/Collateral/NTMFS4936N-D.PDF; ComponentLink3Description: Package Specification; ComponentLink3URL: http://www.onsemi.com/pub_link/Collateral/488AA.PDF
footprint ONSC-DFN-5-488AA_V (DFN, 5-Leads, Body 5.9x4.9mm, Pitch 1.27mm)
pins: 1 S, 2 S, 3 S, 4 G, 5 D
text: 1, 2, 3

## NTMFS4936NCT3G
designator Q?
Power MOSFET, 30 V, 79 A, Single N-Channel, 5-Pin DFN, Pb-Free, Tape and Reel; Manufacturer: On Semiconductor; PartNumber: NTMFS4936NCT3G; Channel Polarity: N Channel; Ciss Typ (pF): 3044; Coss Typ (pF): 1014; Crss Typ (pF): 39; ID Max (A): 79; Qrr Typ (nC): 36; V(BR)DSS Min (V): 30; VGS Max (V): 20; VGS(th) Max (V): 2.2; DatasheetVersion: Rev. 9; PackageVersion: Rev. H, 03/2013; PackageReference: DFN-5-488AA; PackageDescription: 5-Pin Small Outline No-Lead, Body 4.9 x 5.9 mm, Pitch 1.27 mm; Configuration: Single; Package Type: SO-8FL / DFN-5; Packing: Tape and Reel; RoHS: Pb-Free; Mounting Technology: Surface Mount; Code_JEDEC: MO-240A; ComponentLink1Description: Manufacturer URL; ComponentLink1URL: http://www.onsemi.com/; ComponentLink2Description: Datasheet; ComponentLink2URL: http://www.onsemi.com/pub_link/Collateral/NTMFS4936N-D.PDF; ComponentLink3Description: Package Specification; ComponentLink3URL: http://www.onsemi.com/pub_link/Collateral/488AA.PDF
footprint ONSC-DFN-5-488AA_V (DFN, 5-Leads, Body 5.9x4.9mm, Pitch 1.27mm)
pins: 1 S, 2 S, 3 S, 4 G, 5 D
text: 1, 2, 3

## NTMFS4936NT1G
designator Q?
Power MOSFET, 30 V, 79 A, Single N-Channel, 5-Pin DFN, Pb-Free, Tape and Reel; Manufacturer: On Semiconductor; PartNumber: NTMFS4936NT1G; Channel Polarity: N Channel; Ciss Typ (pF): 3044; Coss Typ (pF): 1014; Crss Typ (pF): 39; ID Max (A): 79; Qrr Typ (nC): 36; V(BR)DSS Min (V): 30; VGS Max (V): 20; VGS(th) Max (V): 2.2; DatasheetVersion: Rev. 9; PackageVersion: Rev. H, 03/2013; PackageReference: DFN-5-488AA; PackageDescription: 5-Pin Small Outline No-Lead, Body 4.9 x 5.9 mm, Pitch 1.27 mm; Configuration: Single; Package Type: SO-8FL / DFN-5; Packing: Tape and Reel; RoHS: Pb-Free; Mounting Technology: Surface Mount; Code_JEDEC: MO-240A; ComponentLink1Description: Manufacturer URL; ComponentLink1URL: http://www.onsemi.com/; ComponentLink2Description: Datasheet; ComponentLink2URL: http://www.onsemi.com/pub_link/Collateral/NTMFS4936N-D.PDF; ComponentLink3Description: Package Specification; ComponentLink3URL: http://www.onsemi.com/pub_link/Collateral/488AA.PDF
footprint ONSC-DFN-5-488AA_V (DFN, 5-Leads, Body 5.9x4.9mm, Pitch 1.27mm)
pins: 1 S, 2 S, 3 S, 4 G, 5 D
text: 1, 2, 3

## NTMFS4936NT3G
designator Q?
Power MOSFET, 30 V, 79 A, Single N-Channel, 5-Pin DFN, Pb-Free, Tape and Reel; Manufacturer: On Semiconductor; PartNumber: NTMFS4936NT3G; Channel Polarity: N Channel; Ciss Typ (pF): 3044; Coss Typ (pF): 1014; Crss Typ (pF): 39; ID Max (A): 79; Qrr Typ (nC): 36; V(BR)DSS Min (V): 30; VGS Max (V): 20; VGS(th) Max (V): 2.2; DatasheetVersion: Rev. 9; PackageVersion: Rev. H, 03/2013; PackageReference: DFN-5-488AA; PackageDescription: 5-Pin Small Outline No-Lead, Body 4.9 x 5.9 mm, Pitch 1.27 mm; Configuration: Single; Package Type: SO-8FL / DFN-5; Packing: Tape and Reel; RoHS: Pb-Free; Mounting Technology: Surface Mount; Code_JEDEC: MO-240A; ComponentLink1Description: Manufacturer URL; ComponentLink1URL: http://www.onsemi.com/; ComponentLink2Description: Datasheet; ComponentLink2URL: http://www.onsemi.com/pub_link/Collateral/NTMFS4936N-D.PDF; ComponentLink3Description: Package Specification; ComponentLink3URL: http://www.onsemi.com/pub_link/Collateral/488AA.PDF
footprint ONSC-DFN-5-488AA_V (DFN, 5-Leads, Body 5.9x4.9mm, Pitch 1.27mm)
pins: 1 S, 2 S, 3 S, 4 G, 5 D
text: 1, 2, 3

## NTMFS4937NT1G
designator Q?
Power MOSFET, 30 V, 70 A, Single N-Channel, 5-Pin DFN, Pb-Free, Tape and Reel; Manufacturer: On Semiconductor; PartNumber: NTMFS4937NT1G; Channel Polarity: N Channel; Ciss Typ (pF): 2516; Coss Typ (pF): 840; Crss Typ (pF): 25; ID Max (A): 70; Qrr Typ (nC): 35; V(BR)DSS Min (V): 30; VGS Max (V): 20; VGS(th) Max (V): 2.2; DatasheetVersion: Rev. 6; PackageVersion: Rev. H, 03/2013; PackageReference: DFN-5-488AA; PackageDescription: 5-Pin Small Outline No-Lead, Body 4.9 x 5.9 mm, Pitch 1.27 mm; Configuration: Single; Package Type: SO-8FL / DFN-5; Packing: Tape and Reel; RoHS: Pb-Free; Mounting Technology: Surface Mount; Code_JEDEC: MO-240A; ComponentLink1Description: Manufacturer URL; ComponentLink1URL: http://www.onsemi.com/; ComponentLink2Description: Datasheet; ComponentLink2URL: http://www.onsemi.com/pub_link/Collateral/NTMFS4937N-D.PDF; ComponentLink3Description: Package Specification; ComponentLink3URL: http://www.onsemi.com/pub_link/Collateral/488AA.PDF
footprint ONSC-DFN-5-488AA_V (DFN, 5-Leads, Body 5.9x4.9mm, Pitch 1.27mm)
pins: 1 S, 2 S, 3 S, 4 G, 5 D
text: 1, 2, 3

## NTMFS4937NT3G
designator Q?
Power MOSFET, 30 V, 70 A, Single N-Channel, 5-Pin DFN, Pb-Free, Tape and Reel; Manufacturer: On Semiconductor; PartNumber: NTMFS4937NT3G; Channel Polarity: N Channel; Ciss Typ (pF): 2516; Coss Typ (pF): 840; Crss Typ (pF): 25; ID Max (A): 70; Qrr Typ (nC): 35; V(BR)DSS Min (V): 30; VGS Max (V): 20; VGS(th) Max (V): 2.2; DatasheetVersion: Rev. 6; PackageVersion: Rev. H, 03/2013; PackageReference: DFN-5-488AA; PackageDescription: 5-Pin Small Outline No-Lead, Body 4.9 x 5.9 mm, Pitch 1.27 mm; Configuration: Single; Package Type: SO-8FL / DFN-5; Packing: Tape and Reel; RoHS: Pb-Free; Mounting Technology: Surface Mount; Code_JEDEC: MO-240A; ComponentLink1Description: Manufacturer URL; ComponentLink1URL: http://www.onsemi.com/; ComponentLink2Description: Datasheet; ComponentLink2URL: http://www.onsemi.com/pub_link/Collateral/NTMFS4937N-D.PDF; ComponentLink3Description: Package Specification; ComponentLink3URL: http://www.onsemi.com/pub_link/Collateral/488AA.PDF
footprint ONSC-DFN-5-488AA_V (DFN, 5-Leads, Body 5.9x4.9mm, Pitch 1.27mm)
pins: 1 S, 2 S, 3 S, 4 G, 5 D
text: 1, 2, 3

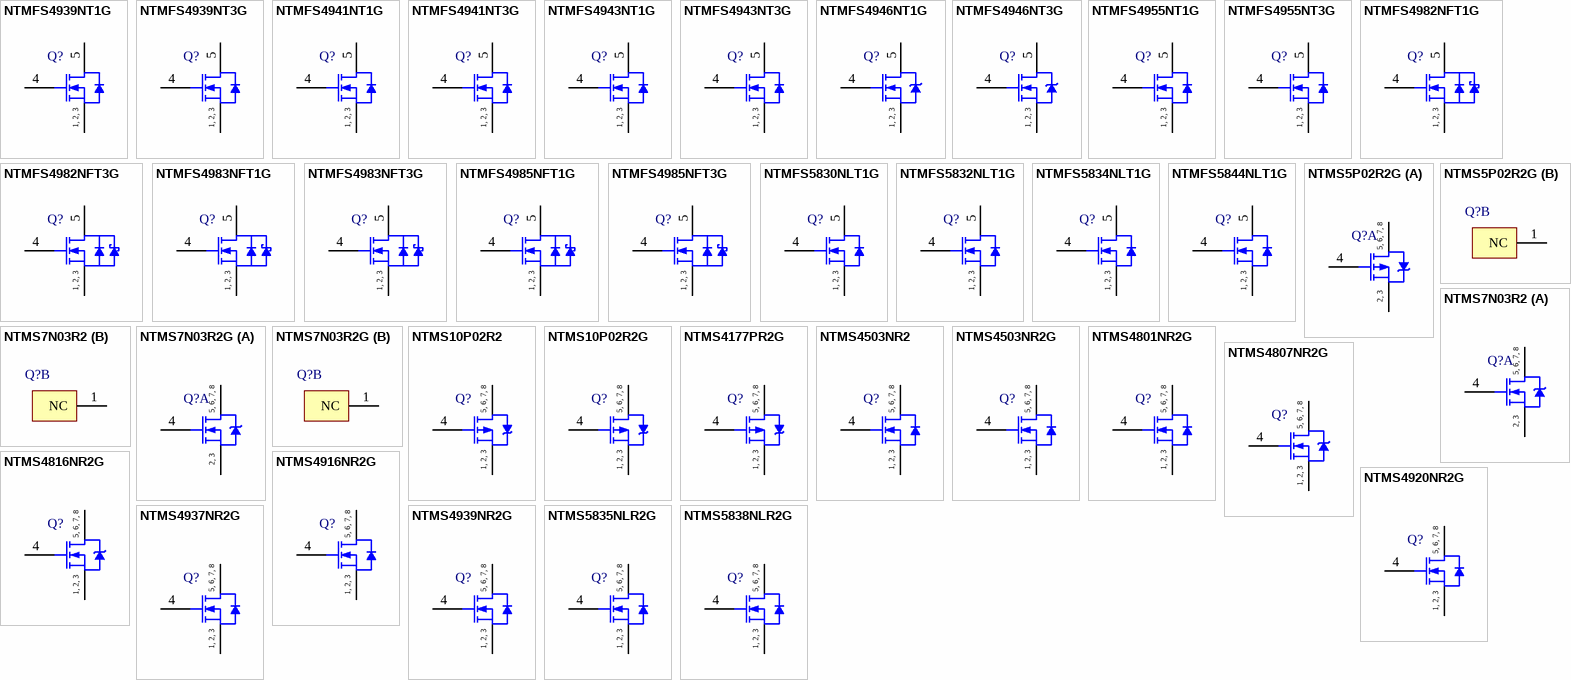
[diagram p21: symbols NTMFS4939NT1G to NTMS5838NLR2G]

## NTMFS4939NT1G
designator Q?
Power MOSFET, 30 V, 53 A, Single N-Channel, 5-Pin DFN, Pb-Free, Tape and Reel; Manufacturer: On Semiconductor; PartNumber: NTMFS4939NT1G; Channel Polarity: N Channel; Ciss Typ (pF): 1954; Coss Typ (pF): 642; Crss Typ (pF): 26.5; ID Max (A): 53; Qrr Typ (nC): 26; V(BR)DSS Min (V): 30; VGS Max (V): 20; VGS(th) Max (V): 2.2; DatasheetVersion: Rev. 5; PackageVersion: Rev. H, 03/2013; PackageReference: DFN-5-488AA; PackageDescription: 5-Pin Small Outline No-Lead, Body 4.9 x 5.9 mm, Pitch 1.27 mm; Configuration: Single; Package Type: SO-8FL / DFN-5; Packing: Tape and Reel; RoHS: Pb-Free; Mounting Technology: Surface Mount; Code_JEDEC: MO-240A; ComponentLink1Description: Manufacturer URL; ComponentLink1URL: http://www.onsemi.com/; ComponentLink2Description: Datasheet; ComponentLink2URL: http://www.onsemi.com/pub_link/Collateral/NTMFS4939N-D.PDF; ComponentLink3Description: Package Specification; ComponentLink3URL: http://www.onsemi.com/pub_link/Collateral/488AA.PDF
footprint ONSC-DFN-5-488AA_V (DFN, 5-Leads, Body 5.9x4.9mm, Pitch 1.27mm)
pins: 1 S, 2 S, 3 S, 4 G, 5 D
text: 1, 2, 3

## NTMFS4939NT3G
designator Q?
Power MOSFET, 30 V, 53 A, Single N-Channel, 5-Pin DFN, Pb-Free, Tape and Reel; Manufacturer: On Semiconductor; PartNumber: NTMFS4939NT3G; Channel Polarity: N Channel; Ciss Typ (pF): 1954; Coss Typ (pF): 642; Crss Typ (pF): 26.5; ID Max (A): 53; Qrr Typ (nC): 26; V(BR)DSS Min (V): 30; VGS Max (V): 20; VGS(th) Max (V): 2.2; DatasheetVersion: Rev. 5; PackageVersion: Rev. H, 03/2013; PackageReference: DFN-5-488AA; PackageDescription: 5-Pin Small Outline No-Lead, Body 4.9 x 5.9 mm, Pitch 1.27 mm; Configuration: Single; Package Type: SO-8FL / DFN-5; Packing: Tape and Reel; RoHS: Pb-Free; Mounting Technology: Surface Mount; Code_JEDEC: MO-240A; ComponentLink1Description: Manufacturer URL; ComponentLink1URL: http://www.onsemi.com/; ComponentLink2Description: Datasheet; ComponentLink2URL: http://www.onsemi.com/pub_link/Collateral/NTMFS4939N-D.PDF; ComponentLink3Description: Package Specification; ComponentLink3URL: http://www.onsemi.com/pub_link/Collateral/488AA.PDF
footprint ONSC-DFN-5-488AA_V (DFN, 5-Leads, Body 5.9x4.9mm, Pitch 1.27mm)
pins: 1 S, 2 S, 3 S, 4 G, 5 D
text: 1, 2, 3

## NTMFS4941NT1G
designator Q?
Power MOSFET, 30 V, 47 A, Single N-Channel, 5-Pin DFN, Pb-Free, Tape and Reel; Manufacturer: On Semiconductor; PartNumber: NTMFS4941NT1G; Channel Polarity: N Channel; Ciss Typ (pF): 1650; Coss Typ (pF): 570; Crss Typ (pF): 17; ID Max (A): 47; Qrr Typ (nC): 25; V(BR)DSS Min (V): 30; VGS Max (V): 20; VGS(th) Max (V): 2.2; DatasheetVersion: Rev. 4; PackageVersion: Rev. H, 03/2013; PackageReference: DFN-5-488AA; PackageDescription: 5-Pin Small Outline No-Lead, Body 4.9 x 5.9 mm, Pitch 1.27 mm; Configuration: Single; Package Type: SO-8FL / DFN-5; Packing: Tape and Reel; RoHS: Pb-Free; Mounting Technology: Surface Mount; Code_JEDEC: MO-240A; ComponentLink1Description: Manufacturer URL; ComponentLink1URL: http://www.onsemi.com/; ComponentLink2Description: Datasheet; ComponentLink2URL: http://www.onsemi.com/pub_link/Collateral/NTMFS4941N-D.PDF; ComponentLink3Description: Package Specification; ComponentLink3URL: http://www.onsemi.com/pub_link/Collateral/488AA.PDF
footprint ONSC-DFN-5-488AA_V (DFN, 5-Leads, Body 5.9x4.9mm, Pitch 1.27mm)
pins: 1 S, 2 S, 3 S, 4 G, 5 D
text: 1, 2, 3

## NTMFS4941NT3G
designator Q?
Power MOSFET, 30 V, 47 A, Single N-Channel, 5-Pin DFN, Pb-Free, Tape and Reel; Manufacturer: On Semiconductor; PartNumber: NTMFS4941NT3G; Channel Polarity: N Channel; Ciss Typ (pF): 1650; Coss Typ (pF): 570; Crss Typ (pF): 17; ID Max (A): 47; Qrr Typ (nC): 25; V(BR)DSS Min (V): 30; VGS Max (V): 20; VGS(th) Max (V): 2.2; DatasheetVersion: Rev. 4; PackageVersion: Rev. H, 03/2013; PackageReference: DFN-5-488AA; PackageDescription: 5-Pin Small Outline No-Lead, Body 4.9 x 5.9 mm, Pitch 1.27 mm; Configuration: Single; Package Type: SO-8FL / DFN-5; Packing: Tape and Reel; RoHS: Pb-Free; Mounting Technology: Surface Mount; Code_JEDEC: MO-240A; ComponentLink1Description: Manufacturer URL; ComponentLink1URL: http://www.onsemi.com/; ComponentLink2Description: Datasheet; ComponentLink2URL: http://www.onsemi.com/pub_link/Collateral/NTMFS4941N-D.PDF; ComponentLink3Description: Package Specification; ComponentLink3URL: http://www.onsemi.com/pub_link/Collateral/488AA.PDF
footprint ONSC-DFN-5-488AA_V (DFN, 5-Leads, Body 5.9x4.9mm, Pitch 1.27mm)
pins: 1 S, 2 S, 3 S, 4 G, 5 D
text: 1, 2, 3

## NTMFS4943NT1G
designator Q?
Power MOSFET, 30 V, 41 A, Single N-Channel, 5-Pin DFN, Pb-Free, Tape and Reel; Manufacturer: On Semiconductor; PartNumber: NTMFS4943NT1G; Channel Polarity: N Channel; Ciss Typ (pF): 1401; Coss Typ (pF): 446; Crss Typ (pF): 16; ID Max (A): 41; Qrr Typ (nC): 10; V(BR)DSS Min (V): 30; VGS Max (V): 20; VGS(th) Max (V): 2.2; DatasheetVersion: Rev. 3; PackageVersion: Rev. H, 03/2013; PackageReference: DFN-5-488AA; PackageDescription: 5-Pin Small Outline No-Lead, Body 4.9 x 5.9 mm, Pitch 1.27 mm; Configuration: Single; Package Type: SO-8FL / DFN-5; Packing: Tape and Reel; RoHS: Pb-Free; Mounting Technology: Surface Mount; Code_JEDEC: MO-240A; ComponentLink1Description: Manufacturer URL; ComponentLink1URL: http://www.onsemi.com/; ComponentLink2Description: Datasheet; ComponentLink2URL: http://www.onsemi.com/pub_link/Collateral/NTMFS4943N-D.PDF; ComponentLink3Description: Package Specification; ComponentLink3URL: http://www.onsemi.com/pub_link/Collateral/488AA.PDF
footprint ONSC-DFN-5-488AA_V (DFN, 5-Leads, Body 5.9x4.9mm, Pitch 1.27mm)
pins: 1 S, 2 S, 3 S, 4 G, 5 D
text: 1, 2, 3

## NTMFS4943NT3G
designator Q?
Power MOSFET, 30 V, 41 A, Single N-Channel, 5-Pin DFN, Pb-Free, Tape and Reel; Manufacturer: On Semiconductor; PartNumber: NTMFS4943NT3G; Channel Polarity: N Channel; Ciss Typ (pF): 1401; Coss Typ (pF): 446; Crss Typ (pF): 16; ID Max (A): 41; Qrr Typ (nC): 10; V(BR)DSS Min (V): 30; VGS Max (V): 20; VGS(th) Max (V): 2.2; DatasheetVersion: Rev. 3; PackageVersion: Rev. H, 03/2013; PackageReference: DFN-5-488AA; PackageDescription: 5-Pin Small Outline No-Lead, Body 4.9 x 5.9 mm, Pitch 1.27 mm; Configuration: Single; Package Type: SO-8FL / DFN-5; Packing: Tape and Reel; RoHS: Pb-Free; Mounting Technology: Surface Mount; Code_JEDEC: MO-240A; ComponentLink1Description: Manufacturer URL; ComponentLink1URL: http://www.onsemi.com/; ComponentLink2Description: Datasheet; ComponentLink2URL: http://www.onsemi.com/pub_link/Collateral/NTMFS4943N-D.PDF; ComponentLink3Description: Package Specification; ComponentLink3URL: http://www.onsemi.com/pub_link/Collateral/488AA.PDF
footprint ONSC-DFN-5-488AA_V (DFN, 5-Leads, Body 5.9x4.9mm, Pitch 1.27mm)
pins: 1 S, 2 S, 3 S, 4 G, 5 D
text: 1, 2, 3

## NTMFS4946NT1G
designator Q?
Power MOSFET, 30 V, 100 A, Single N-Channel, 5-Pin DFN, Pb-Free, Tape and Reel; Manufacturer: On Semiconductor; PartNumber: NTMFS4946NT1G; Channel Polarity: N Channel; Ciss Typ (pF): 3250; Coss Typ (pF): 562; Crss Typ (pF): 289; ID Max (A): 100; Qrr Typ (nC): 8.5; V(BR)DSS Min (V): 30; VGS Max (V): 20; VGS(th) Max (V): 2.5; DatasheetVersion: Rev. 2; PackageVersion: Rev. H, 03/2013; PackageReference: DFN-5-488AA; PackageDescription: 5-Pin Small Outline No-Lead, Body 4.9 x 5.9 mm, Pitch 1.27 mm; Configuration: Single; Package Type: SO-8FL / DFN-5; Packing: Tape and Reel; RoHS: Pb-Free; Mounting Technology: Surface Mount; Code_JEDEC: MO-240A; ComponentLink1Description: Manufacturer URL; ComponentLink1URL: http://www.onsemi.com/; ComponentLink2Description: Datasheet; ComponentLink2URL: http://www.onsemi.com/pub_link/Collateral/NTMFS4946N-D.PDF; ComponentLink3Description: Package Specification; ComponentLink3URL: http://www.onsemi.com/pub_link/Collateral/488AA.PDF
footprint ONSC-DFN-5-488AA_V (DFN, 5-Leads, Body 5.9x4.9mm, Pitch 1.27mm)
pins: 1 S, 2 S, 3 S, 4 G, 5 D
text: 1, 2, 3

## NTMFS4946NT3G
designator Q?
Power MOSFET, 30 V, 100 A, Single N-Channel, 5-Pin DFN, Pb-Free, Tape and Reel; Manufacturer: On Semiconductor; PartNumber: NTMFS4946NT3G; Channel Polarity: N Channel; Ciss Typ (pF): 3250; Coss Typ (pF): 562; Crss Typ (pF): 289; ID Max (A): 100; Qrr Typ (nC): 8.5; V(BR)DSS Min (V): 30; VGS Max (V): 20; VGS(th) Max (V): 2.5; DatasheetVersion: Rev. 2; PackageVersion: Rev. H, 03/2013; PackageReference: DFN-5-488AA; PackageDescription: 5-Pin Small Outline No-Lead, Body 4.9 x 5.9 mm, Pitch 1.27 mm; Configuration: Single; Package Type: SO-8FL / DFN-5; Packing: Tape and Reel; RoHS: Pb-Free; Mounting Technology: Surface Mount; Code_JEDEC: MO-240A; ComponentLink1Description: Manufacturer URL; ComponentLink1URL: http://www.onsemi.com/; ComponentLink2Description: Datasheet; ComponentLink2URL: http://www.onsemi.com/pub_link/Collateral/NTMFS4946N-D.PDF; ComponentLink3Description: Package Specification; ComponentLink3URL: http://www.onsemi.com/pub_link/Collateral/488AA.PDF
footprint ONSC-DFN-5-488AA_V (DFN, 5-Leads, Body 5.9x4.9mm, Pitch 1.27mm)
pins: 1 S, 2 S, 3 S, 4 G, 5 D
text: 1, 2, 3

## NTMFS4955NT1G
designator Q?
Power MOSFET, 30 V, 48 A, Single N-Channel, 5-Pin DFN, Pb-Free, Tape and Reel; Manufacturer: On Semiconductor; PartNumber: NTMFS4955NT1G; Channel Polarity: N Channel; Ciss Typ (pF): 1264; Coss Typ (pF): 483; Crss Typ (pF): 143; ID Max (A): 48; Qrr Typ (nC): 13.6; V(BR)DSS Min (V): 30; VGS Max (V): 20; VGS(th) Max (V): 2.2; DatasheetVersion: Rev. 6; PackageVersion: Rev. H, 03/2013; PackageReference: DFN-5-488AA; PackageDescription: 5-Pin Small Outline No-Lead, Body 4.9 x 5.9 mm, Pitch 1.27 mm; Configuration: Single; Package Type: SO-8FL / DFN-5; Packing: Tape and Reel; RoHS: Pb-Free; Mounting Technology: Surface Mount; Code_JEDEC: MO-240A; ComponentLink1Description: Manufacturer URL; ComponentLink1URL: http://www.onsemi.com/; ComponentLink2Description: Datasheet; ComponentLink2URL: http://www.onsemi.com/pub_link/Collateral/NTMFS4955N-D.PDF; ComponentLink3Description: Package Specification; ComponentLink3URL: http://www.onsemi.com/pub_link/Collateral/488AA.PDF
footprint ONSC-DFN-5-488AA_V (DFN, 5-Leads, Body 5.9x4.9mm, Pitch 1.27mm)
pins: 1 S, 2 S, 3 S, 4 G, 5 D
text: 1, 2, 3